# EAGLE library part AD8212 (library newchips)
High Voltage Current Shunt Monitor
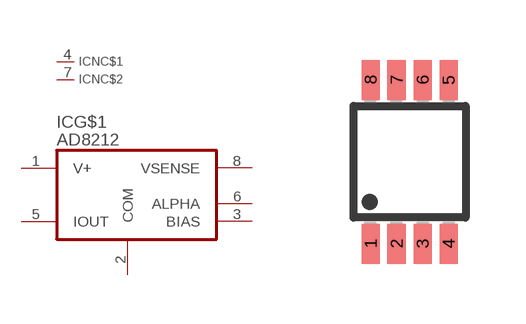
[diagram p10: symbol with the pads of MSOP8; footprint MSOP8]

Designator prefix IC; gates G$1=AD8212 NC$1=NC NC$2=NC

## AD8212A  [MSOP8]
1  G$1:V+  pas
2  G$1:COM  pas
3  G$1:BIAS  pas
4  NC$1:NC  nc
5  G$1:IOUT  pas
6  G$1:ALPHA  pas
7  NC$2:NC  nc
8  G$1:VSENSE  pas

## Footprint MSOP8 (pad centres in mm)
Micro Small Outline Package Grid .65mm
smd 0.45 x 1: 1 -0.975,-2.05; 2 -0.325,-2.05; 3 0.325,-2.05; 4 0.975,-2.05; 5 0.975,2.05; 6 0.325,2.05; 7 -0.325,2.05; 8 -0.975,2.05